# EAGLE library part BT111 (library Bluegiga_Bluetooth)
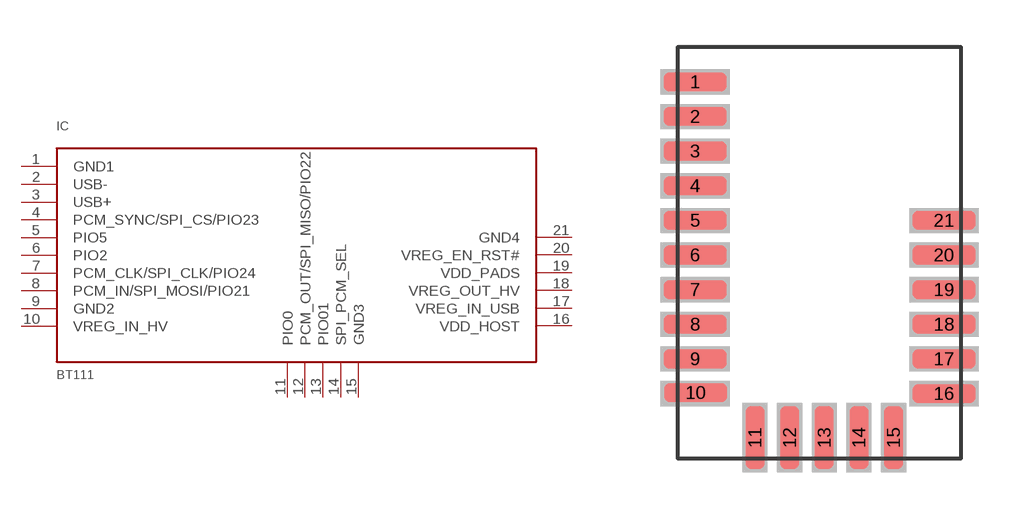
[diagram p2: symbol with the pads of BT111; footprint BT111]

Designator prefix IC

## BT111  [BT111]
1  GND1
2  USB-
3  USB+
4  PCM_SYNC/SPI_CS/PIO23
5  PIO5
6  PIO2
7  PCM_CLK/SPI_CLK/PIO24
8  PCM_IN/SPI_MOSI/PIO21
9  GND2
10  VREG_IN_HV
11  PIO0
12  PCM_OUT/SPI_MISO/PIO22
13  PIO01
14  SPI_PCM_SEL
15  GND3
16  VDD_HOST
17  VREG_IN_USB
18  VREG_OUT_HV
19  VDD_PADS
20  VREG_EN_RST#
21  GND4

## Footprint BT111 (pad centres in mm)
smd 2 x 0.6: 1 -3.8,5.4; 2 -3.8,4.3; 3 -3.8,3.2; 4 -3.8,2.1; 5 -3.8,1; 6 -3.8,-0.1; 7 -3.8,-1.2; 8 -3.8,-2.3; 9 -3.8,-3.4; 10 -3.78,-4.47; 16 4.1,-4.5; 17 4.1,-3.4; 18 4.1,-2.3; 19 4.1,-1.2; 20 4.1,-0.1; 21 4.1,1
smd 0.6 x 2: 11 -1.9,-5.9; 12 -0.8,-5.9; 13 0.3,-5.9; 14 1.4,-5.9; 15 2.5,-5.9